# Altium schematic symbol library PTN24B-C1015DPA.SchLib: 1 symbol
Pins are listed as number, name and electrical type; pins without a type are passive.

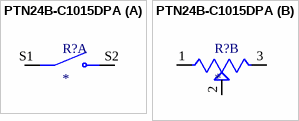
[diagram p0: symbol PTN24B-C1015DPA]

## PTN24B-C1015DPA
designator R?
MP: PTN24B-C1015DPA; Package: None; Price: None; Value: *; Availability: Unavailable
footprint TRIM_PTN24B-C1015DPA
part A pins: S1, S2
part B pins: 1, 2, 3